# Altium schematic symbol library LM334S.SchLib: 1 symbol
Pins are listed as number, name and electrical type; pins without a type are passive.

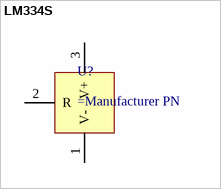
[diagram p0: symbol LM334S]

## LM334S
designator U?
Analog Devices LM334S
pins: 1 V-, 2 R, 3 V+